# EAGLE library part AT90USB1287-* (library toyotune)
Atmel AT90USB647 AVR Microcontroller with USB Interface and 64kB Flash Memory
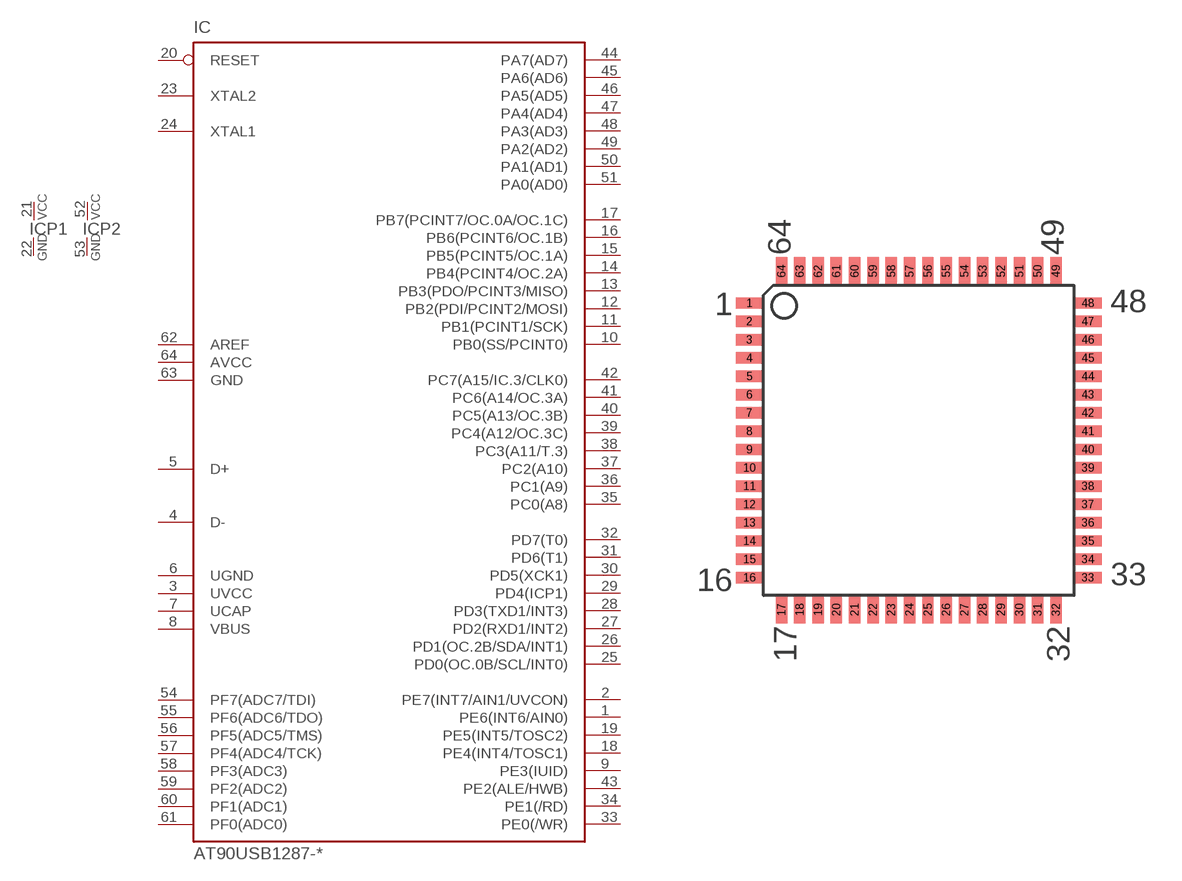
[diagram p3: symbol with the pads of TQFP64; footprint TQFP64]

Designator prefix IC; gates =AT90USB1287 P1=PWR P2=PWR

## AT90USB1287-AU  [TQFP64]
1  :PE6(INT6/AIN0)
2  :PE7(INT7/AIN1/UVCON)
3  :UVCC  pwr
4  :D-
5  :D+
6  :UGND  pwr
7  :UCAP  pwr
8  :VBUS  pwr
9  :PE3(IUID)
10  :PB0(SS/PCINT0)
11  :PB1(PCINT1/SCK)
12  :PB2(PDI/PCINT2/MOSI)
13  :PB3(PDO/PCINT3/MISO)
14  :PB4(PCINT4/OC.2A)
15  :PB5(PCINT5/OC.1A)
16  :PB6(PCINT6/OC.1B)
17  :PB7(PCINT7/OC.0A/OC.1C)
18  :PE4(INT4/TOSC1)
19  :PE5(INT5/TOSC2)
20  :RESET  in
21  P1:VCC  pwr
22  P1:GND  pwr
23  :XTAL2
24  :XTAL1
25  :PD0(OC.0B/SCL/INT0)
26  :PD1(OC.2B/SDA/INT1)
27  :PD2(RXD1/INT2)
28  :PD3(TXD1/INT3)
29  :PD4(ICP1)
30  :PD5(XCK1)
31  :PD6(T1)
32  :PD7(T0)
33  :PE0(/WR)
34  :PE1(/RD)
35  :PC0(A8)
36  :PC1(A9)
37  :PC2(A10)
38  :PC3(A11/T.3)
39  :PC4(A12/OC.3C)
40  :PC5(A13/OC.3B)
41  :PC6(A14/OC.3A)
42  :PC7(A15/IC.3/CLK0)
43  :PE2(ALE/HWB)
44  :PA7(AD7)
45  :PA6(AD6)
46  :PA5(AD5)
47  :PA4(AD4)
48  :PA3(AD3)
49  :PA2(AD2)
50  :PA1(AD1)
51  :PA0(AD0)
52  P2:VCC  pwr
53  P2:GND  pwr
54  :PF7(ADC7/TDI)
55  :PF6(ADC6/TDO)
56  :PF5(ADC5/TMS)
57  :PF4(ADC4/TCK)
58  :PF3(ADC3)
59  :PF2(ADC2)
60  :PF1(ADC1)
61  :PF0(ADC0)
62  :AREF
63  :GND  pwr
64  :AVCC

## Footprint TQFP64 (pad centres in mm)
Thin Plasic Quad Flat Package Updated from atml.lbr 17.01.2005 alf@cadsoft.de
smd 1.2 x 0.5: 1 -7.4,6; 2 -7.4,5.2; 3 -7.4,4.4; 4 -7.4,3.6; 5 -7.4,2.8; 6 -7.4,2; 7 -7.4,1.2; 8 -7.4,0.4; 9 -7.4,-0.4; 10 -7.4,-1.2; 11 -7.4,-2; 12 -7.4,-2.8; 13 -7.4,-3.6; 14 -7.4,-4.4; 15 -7.4,-5.2; 16 -7.4,-6; 33 7.4,-6; 34 7.4,-5.2; 35 7.4,-4.4; 36 7.4,-3.6; 37 7.4,-2.8; 38 7.4,-2; 39 7.4,-1.2; 40 7.4,-0.4; 41 7.4,0.4; 42 7.4,1.2; 43 7.4,2; 44 7.4,2.8; 45 7.4,3.6; 46 7.4,4.4; 47 7.4,5.2; 48 7.4,6
smd 0.5 x 1.2: 17 -6,-7.4; 18 -5.2,-7.4; 19 -4.4,-7.4; 20 -3.6,-7.4; 21 -2.8,-7.4; 22 -2,-7.4; 23 -1.2,-7.4; 24 -0.4,-7.4; 25 0.4,-7.4; 26 1.2,-7.4; 27 2,-7.4; 28 2.8,-7.4; 29 3.6,-7.4; 30 4.4,-7.4; 31 5.2,-7.4; 32 6,-7.4; 49 6,7.4; 50 5.2,7.4; 51 4.4,7.4; 52 3.6,7.4; 53 2.8,7.4; 54 2,7.4; 55 1.2,7.4; 56 0.4,7.4; 57 -0.4,7.4; 58 -1.2,7.4; 59 -2,7.4; 60 -2.8,7.4; 61 -3.6,7.4; 62 -4.4,7.4; 63 -5.2,7.4; 64 -6,7.4